# EAGLE library part MAX17043 (library DMF-MAX17043_TDFN)
MAX17043 TDFN package with extended pads Not tested yet.
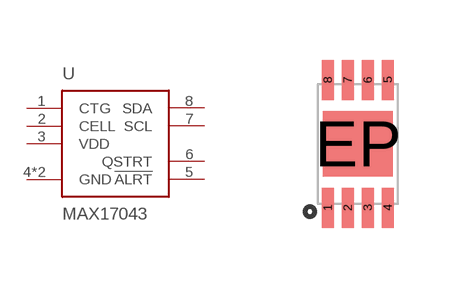
[diagram p0: symbol with the pads of TDFN; footprint TDFN]

Designator prefix U

## MAX17043  [TDFN]
1  CTG
2  CELL
3  VDD
4  GND
5  !ALRT
6  QSTRT
7  SCL
8  SDA
EP  GND

## Footprint TDFN (pad centres in mm)
TDFN-EP package, with extended pads. The MAX17043 does not need thermal vias. The package has the EP, but it's not used for thermal dissipation as far as I can tell.
smd 0.3 x 1: 1 -0.75,-1.6; 2 -0.25,-1.6; 3 0.25,-1.6; 4 0.75,-1.6; 5 0.75,1.6; 6 0.25,1.6; 7 -0.25,1.6; 8 -0.75,1.6
smd 1.75 x 1.63: EP 0,0